# Altium footprint library SO-28_DCR.PcbLib: 1 footprints
Each footprint in its own frame and in the unit in brackets; x right, y up, seen from the top. Pads: shape width x height; smd on the part's side, far side on the other; paste and mask are expansions set on the pad; w line width, h text height; cw(c..) or ccw(c..) is an arc to the next point about the centre after c.
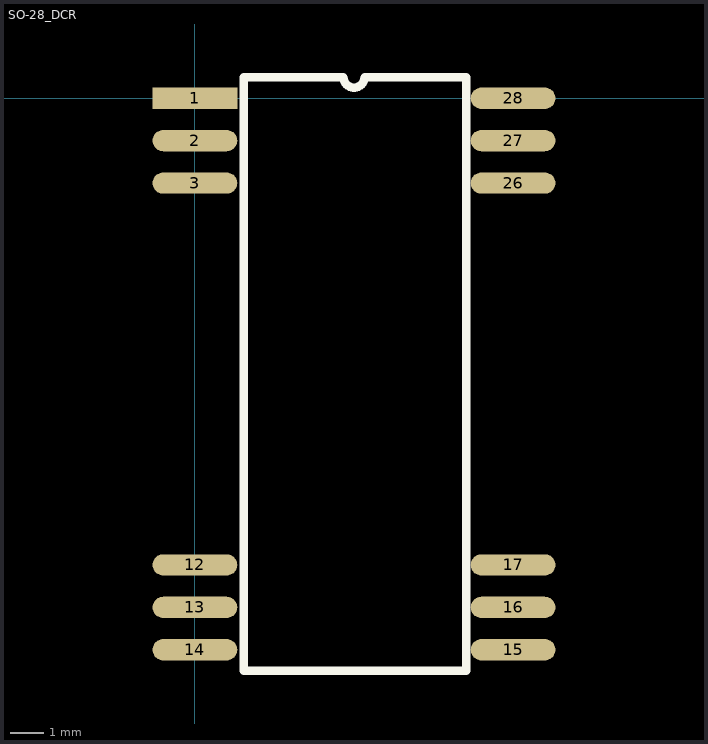
[diagram p0: the footprint, top view; thin cyan lines are the x and y axes]

## SO-28_DCR [mil]
pads (12):
  rect 100x25 smd: 1(0,0)
  oval 100x25 smd: 2(0,-50) 3(0,-100) 12(0,-550) 13(0,-600) 14(0,-650) 15(375,-650) 16(375,-600) 17(375,-550) 26(375,-100) 27(375,-50) 28(375,0)
Top Overlay:
  lines w10: 57.5,-675 320,-675 320,25 200,25 cw(c187.5,25) 175,25 57.5,25 57.5,-675